# Altium footprint library ACTION_Component.PcbLib: 73 footprints (part 4 of 5)
Each footprint in its own frame and in the unit in brackets; x right, y up, seen from the top. Pads: shape width x height; smd on the part's side, far side on the other; paste and mask are expansions set on the pad; w line width, h text height; cw(c..) or ccw(c..) is an arc to the next point about the centre after c.
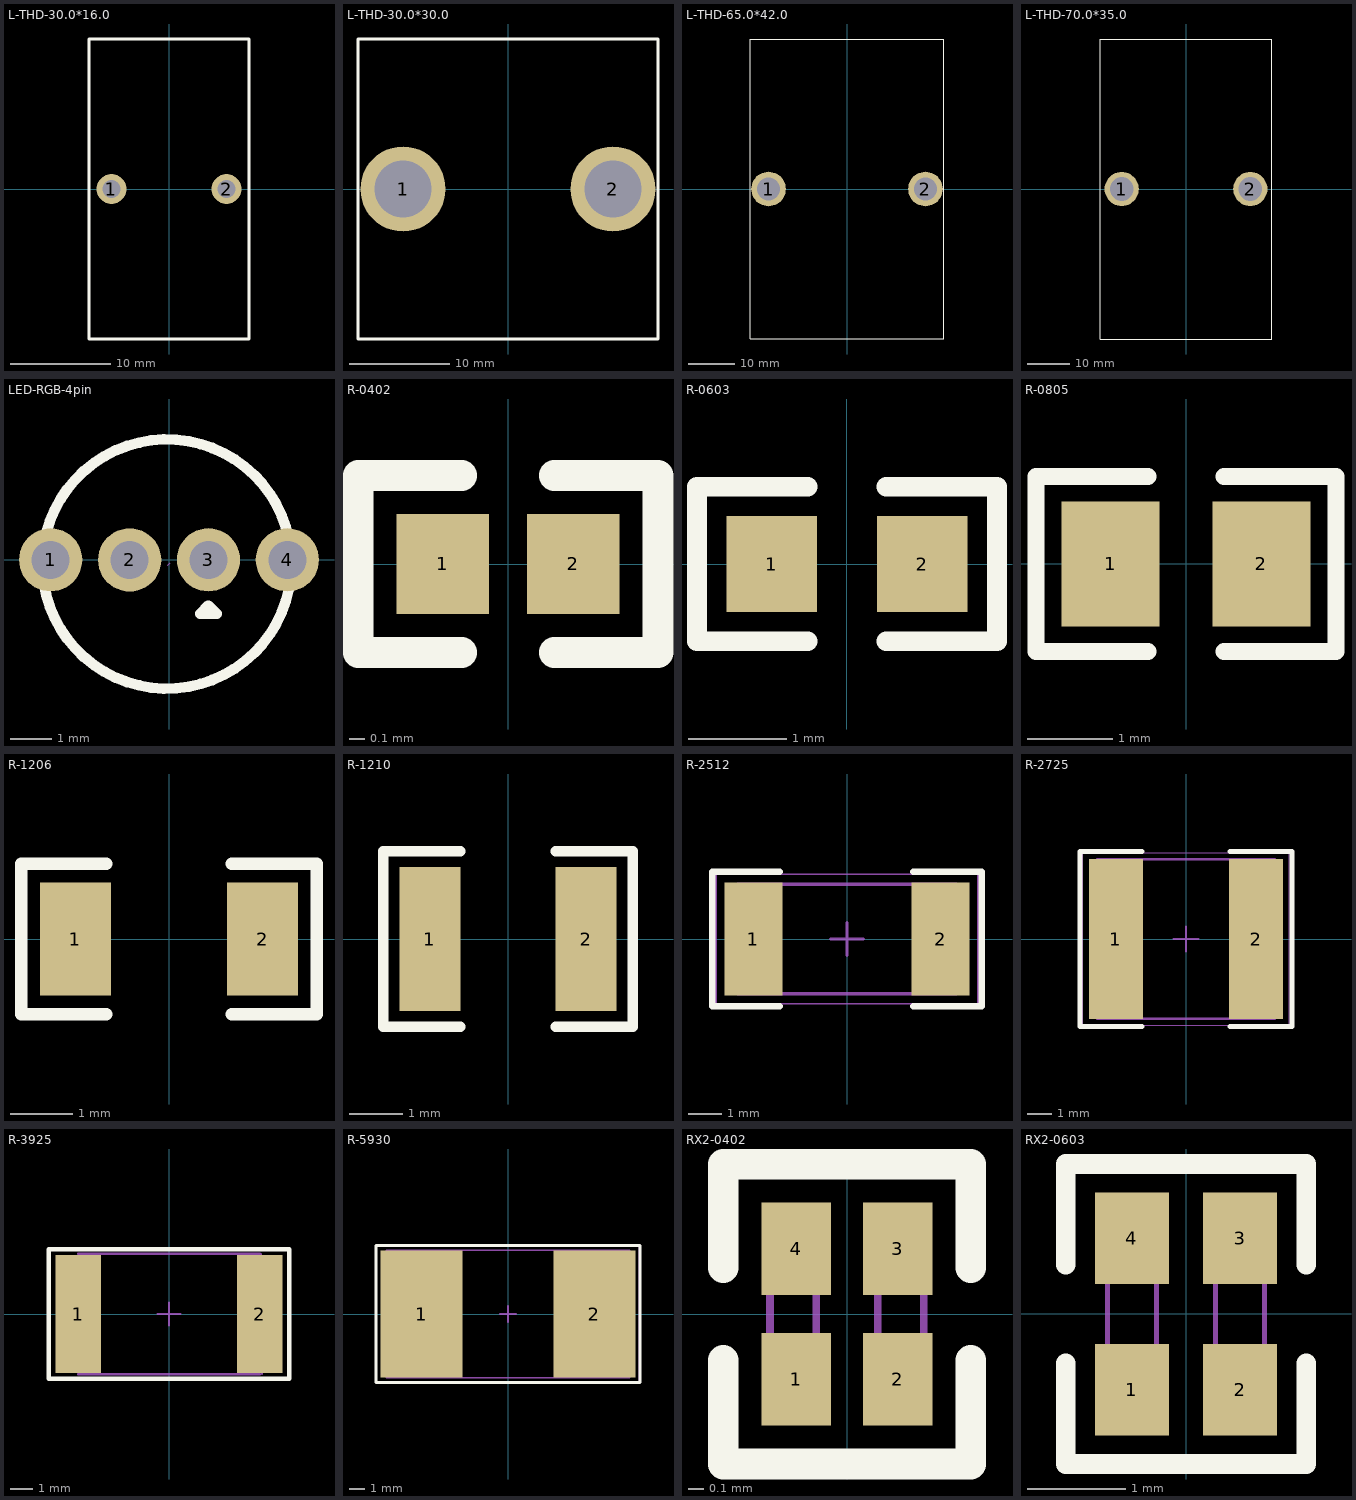
[diagram p3: the footprints below, top view; thin cyan lines are the x and y axes]

## L-THD-30.0*16.0 [mm]
pads (2):
  round 3 hole 1.8: 1(-5.75,0) 2(5.75,0)
Top Overlay:
  lines w0.254: -8,-15 -8,15 8,15 8,-15 -8,-15
3D body: height 30, standoff 0, extent -8.001,-15.037 8.001,14.986

## L-THD-30.0*30.0 [mm]
pads (2):
  round 8.5 hole 5.7: 1(-10.5,0) 2(10.5,0)
Top Overlay:
  lines w0.254: -15,-15 15,-15 15,15 -15,15 -15,-15
3D body: height 30, standoff 0, extent -15.024,-15.037 14.986,14.986

## L-THD-65.0*42.0 [mm]
pads (2):
  round 7.5 hole 5: 1(-17,0) 2(17,0)
Top Overlay:
  lines w0.254: -21,-32.5 21,-32.5 21,32.5 -21,32.5 -21,-32.5
3D body: height 65, standoff 0, extent -21.033,-32.512 21.006,32.512

## L-THD-70.0*35.0 [mm]
pads (2):
  round 8 hole 5.5: 1(-15,0) 2(15,0)
Top Overlay:
  lines w0.254: -20,-35 20,-35 20,35 -20,35 -20,-35
3D body: height 65, standoff 0, extent -20.019,-35.001 19.99,34.95

## LED-RGB-4pin [mil]
pads (4):
  round 60 hole 36: 1(-112.2,0.05) 2(-37.3,-0.05) 3(37.4,0.05) 4(112.2,0.05)
Top Overlay:
  circle w10: c-2,-3.89 r118.11
  lines w10: 29.5,-51.13 45.24,-51.13 37.37,-43.26 29.5,-51.13
Mechanical 15:
  lines w0.1: -1,-4.89 1,-2.89

## R-0402 [mm]
pads (2):
  rect 0.6x0.65 smd mask+0.051: 1(-0.425,0) 2(0.425,0)
Top Overlay:
  lines w0.2: -0.3,-0.575 -0.975,-0.575 -0.975,0.575 -0.3,0.575 ; 0.3,-0.575 0.975,-0.575 0.975,0.575 0.3,0.575
3D body "User Library-RES_1005-0402.STEP": height 0.41, standoff 0, extent -0.575,-0.275 0.575,0.275

## R-0603 [mm]
pads (2):
  rect 0.93x0.98 smd: 1(-0.77,0) 2(0.77,0)
Top Overlay:
  lines w0.2: -0.4,-0.79 -1.535,-0.79 -1.535,0.79 -0.4,0.79 ; 0.4,-0.79 1.535,-0.79 1.535,0.79 0.4,0.79
3D body "User Library-RES_1609-0603.STEP": height 0.56, standoff 0, extent -0.85,-0.4 0.85,0.4

## R-0805 [mm]
pads (2):
  rect 1.16x1.47 smd: 1(-0.89,0) 2(0.89,0)
Top Overlay:
  lines w0.2: -0.45,-1.035 -1.77,-1.035 -1.77,1.035 -0.45,1.035 ; 0.45,-1.035 1.77,-1.035 1.77,1.035 0.45,1.035
3D body "User Library-R_0805.STEP": height 0.49, standoff -0.01, extent -0.997,-0.625 1.003,0.625

## R-1206 [mm]
pads (2):
  rect 1.13x1.8 smd: 1(-1.49,0) 2(1.49,0)
Top Overlay:
  lines w0.2: -1,-1.2 -2.355,-1.2 -2.355,1.2 -1,1.2 ; 1,-1.2 2.355,-1.2 2.355,1.2 1,1.2
3D body "User Library-RES_3216-1206.STEP": height 0.85, standoff 0, extent -1.7,-0.864 1.65,0.866

## R-1210 [mm]
pads (2):
  rect 1.16x2.72 smd: 1(-1.475,0) 2(1.475,0)
Top Overlay:
  lines w0.2: -0.9,-1.66 -2.355,-1.66 -2.355,1.66 -0.9,1.66 ; 0.9,-1.66 2.355,-1.66 2.355,1.66 0.9,1.66
3D body "User Library-R_1210.STEP": height 0.6, standoff 0, extent -1.6,-1.25 1.6,1.25

## R-2512 [mm]
height 3.31
pads (2):
  rect 1.75x3.4 smd: 1(-2.825,0) 2(2.825,0)
Top Overlay:
  lines w0.2: -2.032,-2.032 -4.064,-2.032 -4.064,2.032 -2.032,2.032 ; 2.001,-2.032 4.033,-2.032 ; 2.001,2.032 4.033,2.032 ; 4.064,-2.032 4.064,2.032
Mechanical 13:
  lines w0.1: -3.3,-1.65 -3.3,1.65 3.3,1.65 3.3,-1.65 -3.3,-1.65
Mechanical 15:
  lines w0.05: -3.95,-1.95 -3.95,1.95 3.95,1.95 3.95,-1.95 -3.95,-1.95
  lines w0.1: -0.5,0 0.5,0 ; 0,-0.5 0,0.5
3D body "User Library-res2512_body.STEP": height 0.62, standoff 0, extent -3.159,-1.6 3.16,1.6

## R-2725 [mm]
pads (2):
  rect 2.2x6.5 smd: 1(-2.85,0) 2(2.85,0)
Top Overlay:
  lines w0.2: -1.778,-3.556 -4.318,-3.556 -4.318,3.556 -1.778,3.556 ; 1.778,-3.556 4.318,-3.556 4.318,3.556 1.778,3.556
Mechanical 13:
  lines w0.1: -3.6,-3.25 3.6,-3.25 3.6,3.25 -3.6,3.25 -3.6,-3.25
Mechanical 15:
  lines w0.05: -4.2,-3.5 4.2,-3.5 4.2,3.5 -4.2,3.5 -4.2,-3.5
  lines w0.1: -0.5,0 0.5,0 ; 0,-0.5 0,0.5
3D body: height 1, standoff 0, extent 2.2,-3.25 3.6,3.25
3D body: height 1, standoff 0, extent -3.6,-3.25 -2.2,3.25
3D body: height 1, standoff 0, extent -2.2,-3.25 2.2,3.25

## R-3925 [mm]
pads (2):
  rect 2x5.2 smd: 1(-4,0) 2(4,0)
Top Overlay:
  lines w0.2: -5.3,-2.85 -5.3,2.85 5.3,2.85 5.3,-2.85 -5.3,-2.85
Mechanical 13:
  lines w0.1: -4,-2.65 4,-2.65 ; -4,2.65 4,2.65 ; -3.835,-1.635 -3.835,2.642 ; 4.039,-1.635 4.039,2.642
Mechanical 15:
  lines w0.1: -3.785,-2.642 -3.785,2.54 ; -0.5,0 0.5,0 ; 0,-0.5 0,0.5 ; 4.089,-2.642 4.089,2.54
3D body: height 1, standoff 0, extent -5.296,-2.857 5.296,2.857

## R-5930 [mm]
height 1.6
pads (2):
  rect 5.15x8 smd: 1(-5.425,0) 2(5.425,0)
Top Overlay:
  lines w0.2: -8.3,-4.3 -8.3,4.3 8.3,4.3 8.3,-4.3 -8.3,-4.3
Mechanical 13:
  lines w0.1: -7.65,-4 7.65,-4 7.65,4 -7.65,4 -7.65,-4
Mechanical 15:
  lines w0.05: -8.25,-4.25 8.25,-4.25 8.25,4.25 -8.25,4.25 -8.25,-4.25
  lines w0.1: -0.5,0 0.5,0 ; 0,-0.5 0,0.5
3D body "R-5930.step": height 1.6, standoff 0, extent -7.65,-4 7.65,4

## RX2-0402 [mm]
pads (4):
  rect 0.45x0.6 smd mask+0.051: 1(-0.33,-0.425) 2(0.33,-0.425) 3(0.33,0.425) 4(-0.33,0.425)
Top Overlay:
  lines w0.2: -0.805,-0.3 -0.805,-0.975 0.805,-0.975 0.805,-0.3 ; -0.805,0.3 -0.805,0.975 0.805,0.975 0.805,0.3
Mechanical 13:
  lines w0.05: -0.5,-0.5 -0.2,-0.5 -0.2,0.5 -0.5,0.5 -0.5,-0.5 ; 0.2,-0.5 0.5,-0.5 0.5,0.5 0.2,0.5 0.2,-0.5
3D body "User Library-YC122.STEP": height 0.35, standoff 0, extent -0.5,-0.5 0.5,0.5

## RX2-0603 [mm]
pads (4):
  rect 0.75x0.93 smd: 1(-0.55,-0.77) 2(0.55,-0.77) 3(0.55,0.77) 4(-0.55,0.77)
Top Overlay:
  lines w0.2: -1.225,-0.5 -1.225,-1.527 1.225,-1.527 1.225,-0.5 ; -1.225,0.5 -1.225,1.527 1.225,1.527 1.225,0.5
Mechanical 13:
  lines w0.05: -0.8,-0.8 -0.3,-0.8 -0.3,0.8 -0.8,0.8 -0.8,-0.8 ; 0.3,-0.8 0.8,-0.8 0.8,0.8 0.3,0.8 0.3,-0.8